# EAGLE library part LMR23625 (library 1zac)
Buck 2.5A 36 V, 2.5 A synchronous step down regulator. With a wide input range from 4.5 V to 36 V
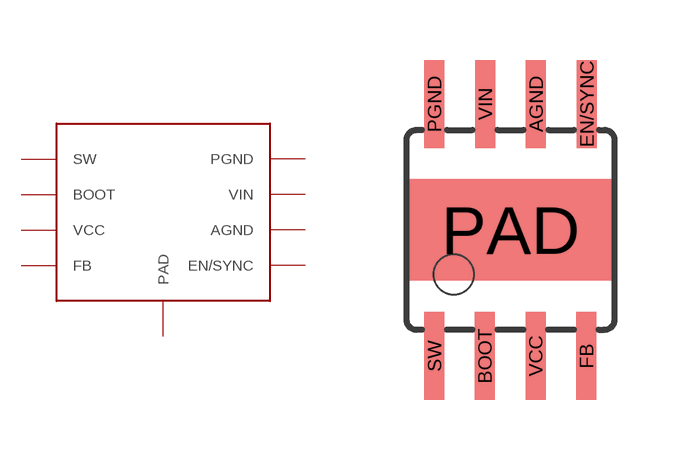
[diagram p0: symbol with the pads of HSOIC(8); footprint HSOIC(8)]

Designator prefix -

## LMR23625 (MPN: LMR23625)  [HSOIC(8)]
AGND  AGND
BOOT  BOOT
EN/SYNC  EN/SYNC
FB  FB
PAD  PAD
PGND  PGND
SW  SW
VCC  VCC
VIN  VIN

## Footprint HSOIC(8) (pad centres in mm)
smd 0.5 x 2.2: AGND 0.635,3.154; BOOT -0.645,-3.154; EN/SYNC 1.905,3.154; FB 1.895,-3.154; PGND -1.905,3.154; SW -1.905,-3.154; VCC 0.625,-3.154; VIN -0.635,3.154
smd 5.08 x 2.54: PAD 0,0